# EAGLE library part ATTINY1614 (library ATtiny ow V01)
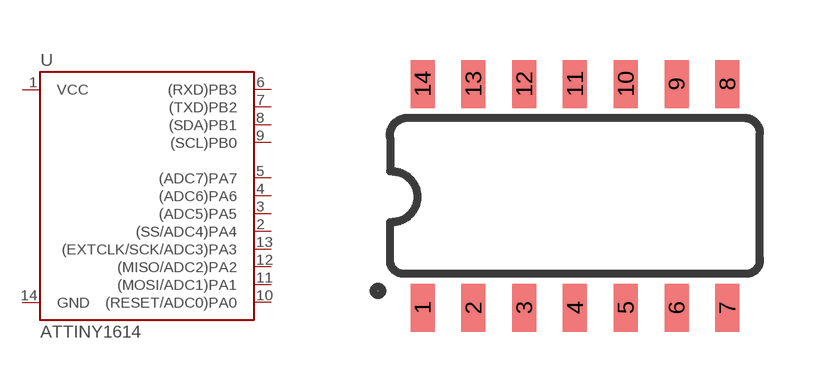
[diagram p0: symbol with the pads of SOIC-14; footprint SOIC-14]

Designator prefix -

## ATTINY1614SOIC-14  [SOIC-14]
1  VCC
2  (SS/ADC4)PA4
3  (ADC5)PA5
4  (ADC6)PA6
5  (ADC7)PA7
6  (RXD)PB3
7  (TXD)PB2
8  (SDA)PB1
9  (SCL)PB0
10  (RESET/ADC0)PA0
11  (MOSI/ADC1)PA1
12  (MISO/ADC2)PA2
13  (EXTCLK/SCK/ADC3)PA3
14  GND

## Footprint SOIC-14 (pad centres in mm)
smd 0.6 x 1.2: 1 -3.81,-2.8; 2 -2.54,-2.8; 3 -1.27,-2.8; 4 0,-2.8; 5 1.27,-2.8; 6 2.54,-2.8; 7 3.81,-2.8; 8 3.81,2.8; 9 2.54,2.8; 10 1.27,2.8; 11 0,2.8; 12 -1.27,2.8; 13 -2.54,2.8; 14 -3.81,2.8